# Altium footprint library LFCSP_VQ-12_ANALOG.PcbLib: 1 footprints
Each footprint in its own frame and in the unit in brackets; x right, y up, seen from the top. Pads: shape width x height; smd on the part's side, far side on the other; paste and mask are expansions set on the pad; w line width, h text height; cw(c..) or ccw(c..) is an arc to the next point about the centre after c.
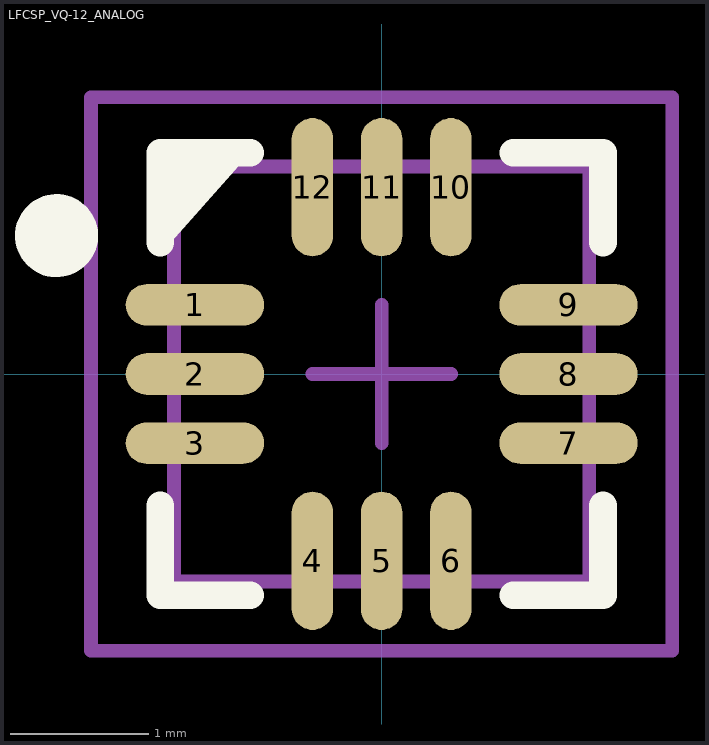
[diagram p0: the footprint, top view; thin cyan lines are the x and y axes]

## LFCSP_VQ-12_ANALOG [mm]
height 1
pads (12):
  oval 1x0.3 smd mask+0.08: 1(-1.35,0.5) 2(-1.35,0) 3(-1.35,-0.5) 7(1.35,-0.5) 8(1.35,0) 9(1.35,0.5)
  oval 0.3x1 smd mask+0.08: 4(-0.5,-1.35) 5(0,-1.35) 6(0.5,-1.35) 10(0.5,1.35) 11(0,1.35) 12(-0.5,1.35)
Top Overlay:
  circle w0.3: c-2.35,1 r0.15
  region: -1.575,1.6 -1.603,0.861 -0.95,1.6
  lines w0.2: -1.6,-0.95 -1.6,-1.6 -0.95,-1.6 ; -1.6,0.95 -1.6,1.6 -0.95,1.6 ; 0.95,-1.6 1.6,-1.6 1.6,-0.95 ; 0.95,1.6 1.6,1.6 1.6,0.95
Mechanical 13:
  lines w0.1: -1.5,-1.5 1.5,-1.5 1.5,1.5 -1.5,1.5 -1.5,-1.5
Mechanical 15:
  lines w0.1: -0.5,0 0.5,0 ; 0,-0.5 0,0.5 ; -2.1,-2 2.1,-2 2.1,2 -2.1,2 -2.1,-2
3D body: height 1.02, standoff 0, extent -1.57,-1.57 1.58,1.58